# Altium footprint library pi_mipi_dsp.PcbLib: 20 footprints (part 2 of 2)
Each footprint in its own frame and in the unit in brackets; x right, y up, seen from the top. Pads: shape width x height; smd on the part's side, far side on the other; paste and mask are expansions set on the pad; w line width, h text height; cw(c..) or ccw(c..) is an arc to the next point about the centre after c.
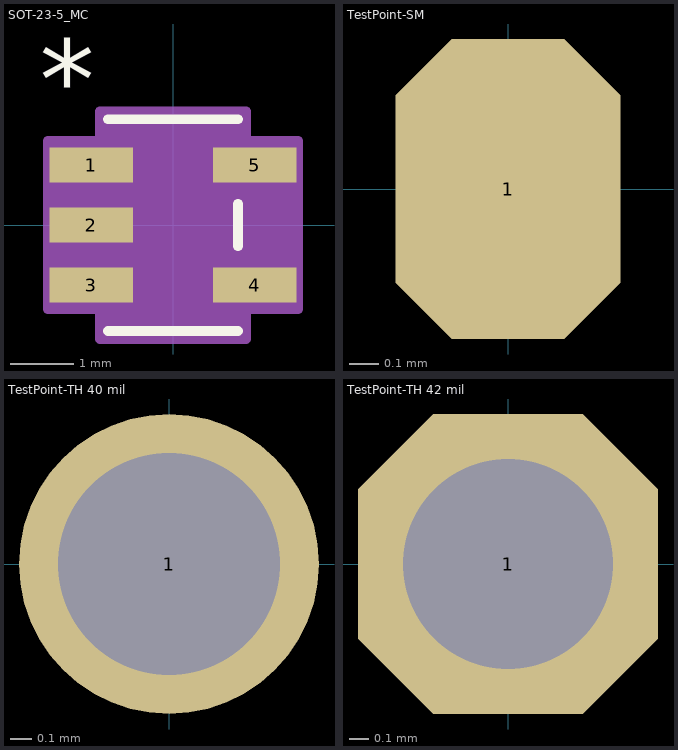
[diagram p1: the footprints below, top view; thin cyan lines are the x and y axes]

## SOT-23-5_MC [mil]
pads (5):
  rect 52x22 smd paste+0 mask+0: 1(-51,37.4) 2(-51,0) 3(-51,-37.4) 4(51,-37.4) 5(51,37.4)
Top Overlay:
  lines w6: -40.5,-66 40.5,-66 ; -40.5,66 40.5,66 ; 40.5,-13.3 40.5,13.3
  text "*" at -83,66 h50
Mechanical 13:
  lines w0: -12,61 ccw(c0,61) 12,61
  lines w1: -63,-47.4 -63,-27.4 -35.5,-27.4 -35.5,-47.4 -63,-47.4 ; -63,-10 -63,10 -35.5,10 -35.5,-10 -63,-10 ; -63,27.4 -63,47.4 -35.5,47.4 -35.5,27.4 -63,27.4 ; -35.5,-61 35.5,-61 35.5,61 -35.5,61 -35.5,-61 ; 35.5,-47.4 35.5,-27.4 63,-27.4 63,-47.4 35.5,-47.4 ; 35.5,27.4 35.5,47.4 63,47.4 63,27.4 35.5,27.4
Mechanical 15:
  region: 45.5,-71 -45.5,-71 -45.5,-52.4 -78,-52.4 -78,52.4 -45.5,52.4 -45.5,71 45.5,71 45.5,52.4 78,52.4 78,-52.4 45.5,-52.4
  lines w6: -78,-52.4 -45.5,-52.4 -45.5,-71 45.5,-71 45.5,-52.4 78,-52.4 78,52.4 45.5,52.4 45.5,71 -45.5,71 -45.5,52.4 -78,52.4 -78,-52.4
3D body: height 10, standoff 0, extent 0,0 10,10

## TestPoint-SM [mil]
pads (1):
  oct 30x40 smd paste-40: 1(0,0)

## TestPoint-TH 40 mil [mil]
pads (1):
  round 54 hole 40: 1(0,0)

## TestPoint-TH 42 mil [mil]
pads (1):
  oct 60x60 hole 42: 1(0,0)